# Altium footprint library SnapEDApcb.PcbLib: 1 footprints
Each footprint in its own frame and in the unit in brackets; x right, y up, seen from the top. Pads: shape width x height; smd on the part's side, far side on the other; paste and mask are expansions set on the pad; w line width, h text height; cw(c..) or ccw(c..) is an arc to the next point about the centre after c.
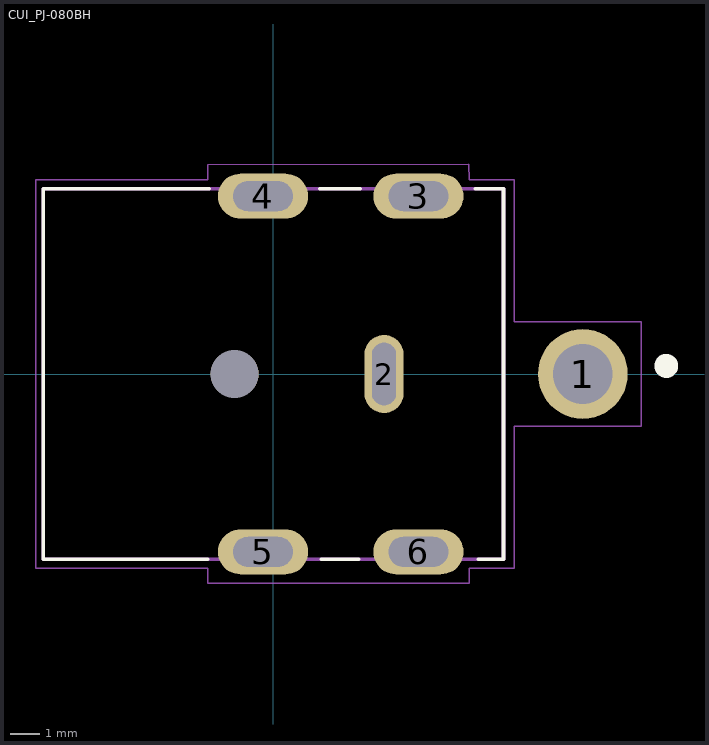
[diagram p0: the footprint, top view; thin cyan lines are the x and y axes]

## CUI_PJ-080BH [mm]
pads (7):
  round 3 hole 2: 1(10.35,0)
  oval 1.308x2.616 hole 0.8 slot 2.1 at 90 deg: 2(3.7,0)
  oval 3.016x1.508 hole 1 slot 2 at 0 deg: 3(4.85,5.95) 4(-0.35,5.95) 5(-0.35,-5.95) 6(4.85,-5.95)
  round 1.6 hole 1.6 unplated: ""(-1.3,0)
Top Overlay:
  circle w0.4: c13.14,0.27 r0.2
  lines w0.127: -2.46,-6.2 -7.7,-6.2 -7.7,6.2 -2.46,6.2 ; -2.45,-6.2 -2.2,-6.2 ; -2.4,6.2 -2.15,6.2 ; 1.55,6.2 2.9,6.2 ; 1.6,-6.2 2.85,-6.2 ; 6.75,6.2 7.7,6.2 7.7,-6.2 6.85,-6.2
Mechanical 13:
  lines w0.127: -7.7,-6.2 -7.7,6.2 7.7,6.2 7.7,-6.2 -7.7,-6.2
Mechanical 15:
  lines w0.05: -7.95,-6.5 -7.95,6.5 -2.2,6.5 -2.2,7 6.54,7.02 6.55,6.5 8.05,6.5 8.05,1.75 12.3,1.75 12.3,-1.75 8.05,-1.75 8.05,-6.5 6.55,-6.5 6.55,-7 -2.2,-7 -2.2,-6.5 -7.95,-6.5